# EAGLE library part AT42QT1012 (library deiring-components)
Capacitive Touch Sensor
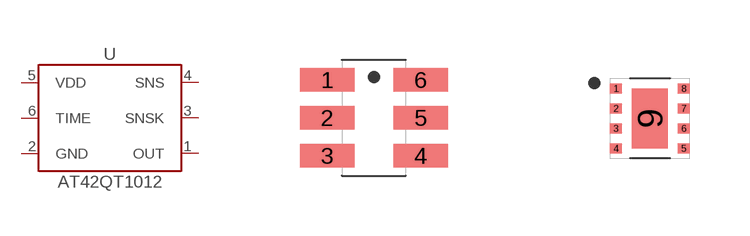
[diagram p3: symbol with the pads of SOT-23-6; footprints SOT-23-6, UDFN-8]

Designator prefix U

## AT42QT1012-SOT-23-6 (LCSC: C112956; MF: Microchip Tech; MPN: AT42QT1012-TSHR; VALUE: AT42QT1012)  [SOT-23-6]
1  OUT
2  GND  pwr
3  SNSK
4  SNS
5  VDD  pwr
6  TIME

## AT42QT1012-UDFN-8 (LCSC: C147899; MF: Microchip Tech; MPN: AT42QT1012-MAHR; VALUE: AT42QT1012)  [UDFN-8]
1  SNSK
4  GND  pwr
5  OUT
6  TIME
7  VDD  pwr
8  SNS
9  GND  pwr

## Footprint SOT-23-6 (pad centres in mm)
smd 1.37 x 0.59: 1 -1.17,0.95; 2 -1.17,0; 3 -1.17,-0.95; 4 1.17,-0.95; 5 1.17,0; 6 1.17,0.95

## Footprint UDFN-8 (pad centres in mm)
smd 0.3 x 0.25: 1 -0.85,0.75; 2 -0.85,0.25; 3 -0.85,-0.25; 4 -0.85,-0.75; 5 0.85,-0.75; 6 0.85,-0.25; 7 0.85,0.25; 8 0.85,0.75
smd 0.9 x 1.5: 9 0,0